# Altium schematic symbol library Led.SCHLIB: 1 symbol
Pins are listed as number, name and electrical type; pins without a type are passive.

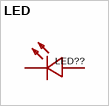
[diagram p0: symbol LED]

## LED
designator LED??, comment MHT192WDT-CYAN  (value not drawn)
Manufacturer: MEIHUA(美华); Add into BOM: yes; Power Dissipation: 100mW; Forward Current: 20mA; Lens Color: 雾状绿透镜; Viewing Angle: 130°; Symbol: MHT192WDT-CYAN; Device: MHT192WDT-CYAN; LCSC Part Name: MHT192WDT-CYAN; Supplier Part: C496821; Manufacturer Part: MHT192WDT-CYAN; Supplier Footprint: 0603; JLCPCB Part Class: Extended Part; Datasheet: https://atta.szlcsc.com/upload/public/pdf/source/20200316/C496821_3E439A7DBE0C3627796F4F9071B8BDF1.pdf; Supplier: LCSC; Convert to PCB: yes; Emitted Color: -; Dominant Wavelength: -; Peak Wavelength: -; Diode Configuration: -; Color Temperature: -; Mounting Sytle: -; Operating Temperature: -40℃~+85℃
footprint LED0603-RD
footprint LED (Footprint not found)
footprint LED0603-R-RD_BLUE
pins: 1 A, 2 K